# EAGLE library part TA222 (library pswitch40)
E-Switch TA-222 pushbutton switch
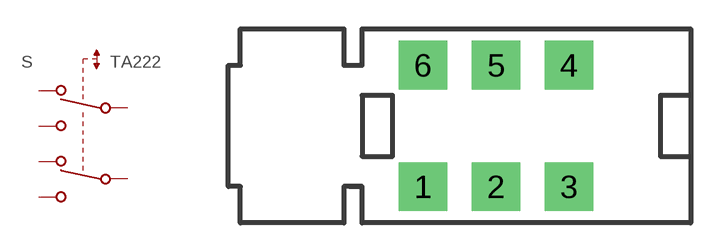
[diagram p0: symbol with the pads of TA222; footprint TA222]

Designator prefix S

## TA222  [TA222]
1  1  pas
2  2  pas
3  3  pas
4  4  pas
5  5  pas
6  6  pas

## Footprint TA222 (pad centres in mm)
E-Switch TA222 Series Pushbutton
drill 1.27 pad 2.54 square: 1 -3.81,-3.175; 2 0,-3.175; 3 3.81,-3.175; 4 3.81,3.175; 5 0,3.175; 6 -3.81,3.175